# EAGLE library part SCREW-TERMINAL-6P (library connector)
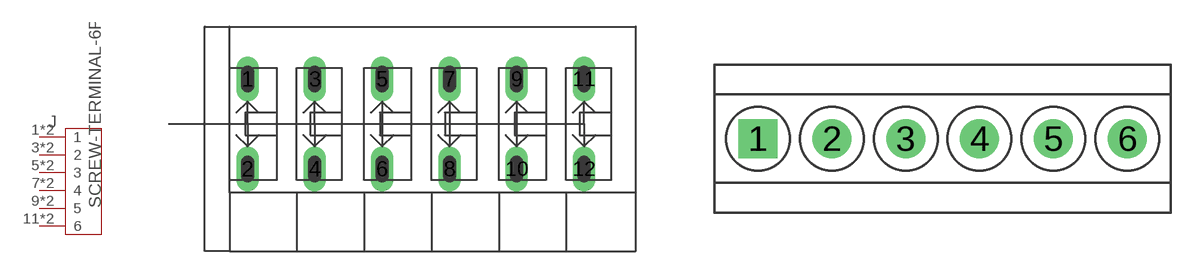
[diagram p4: symbol with the pads of 12P-3.81-12.7X24.5X9.3; footprints 12P-3.81-12.7X24.5X9.3, 6P-3.5]

Designator prefix J

## SCREW-TERMINAL-6P'3.81'  [12P-3.81-12.7X24.5X9.3]
1  1
2  1
3  2
4  2
5  3
6  3
7  4
8  4
9  5
10  5
11  6
12  6

## SCREW-TERMINAL-6P'3.5'  [6P-3.5]
1  1
2  2
3  3
4  4
5  5
6  6

## Footprint 12P-3.81-12.7X24.5X9.3 (pad centres in mm)
drill 0.762 pad 1.016 long: 1 -9.525,2.54; 2 -9.525,-2.54; 3 -5.715,2.54; 4 -5.715,-2.54; 5 -1.905,2.54; 6 -1.905,-2.54; 7 1.905,2.54; 8 1.905,-2.54; 9 5.715,2.54; 10 5.715,-2.54; 11 9.525,2.54; 12 9.525,-2.54

## Footprint 6P-3.5 (pad centres in mm)
drill 1 pad 1.85 square: 1 -8.75,0
drill 1 pad 1.85: 2 -5.25,0; 3 -1.75,0; 4 1.75,0; 5 5.25,0; 6 8.75,0